# Altium footprint library SparkFun-Connectors.PCBLIB: 309 footprints (part 2 of 20)
Each footprint in its own frame and in the unit in brackets; x right, y up, seen from the top. Pads: shape width x height; smd on the part's side, far side on the other; paste and mask are expansions set on the pad; w line width, h text height; cw(c..) or ccw(c..) is an arc to the next point about the centre after c.
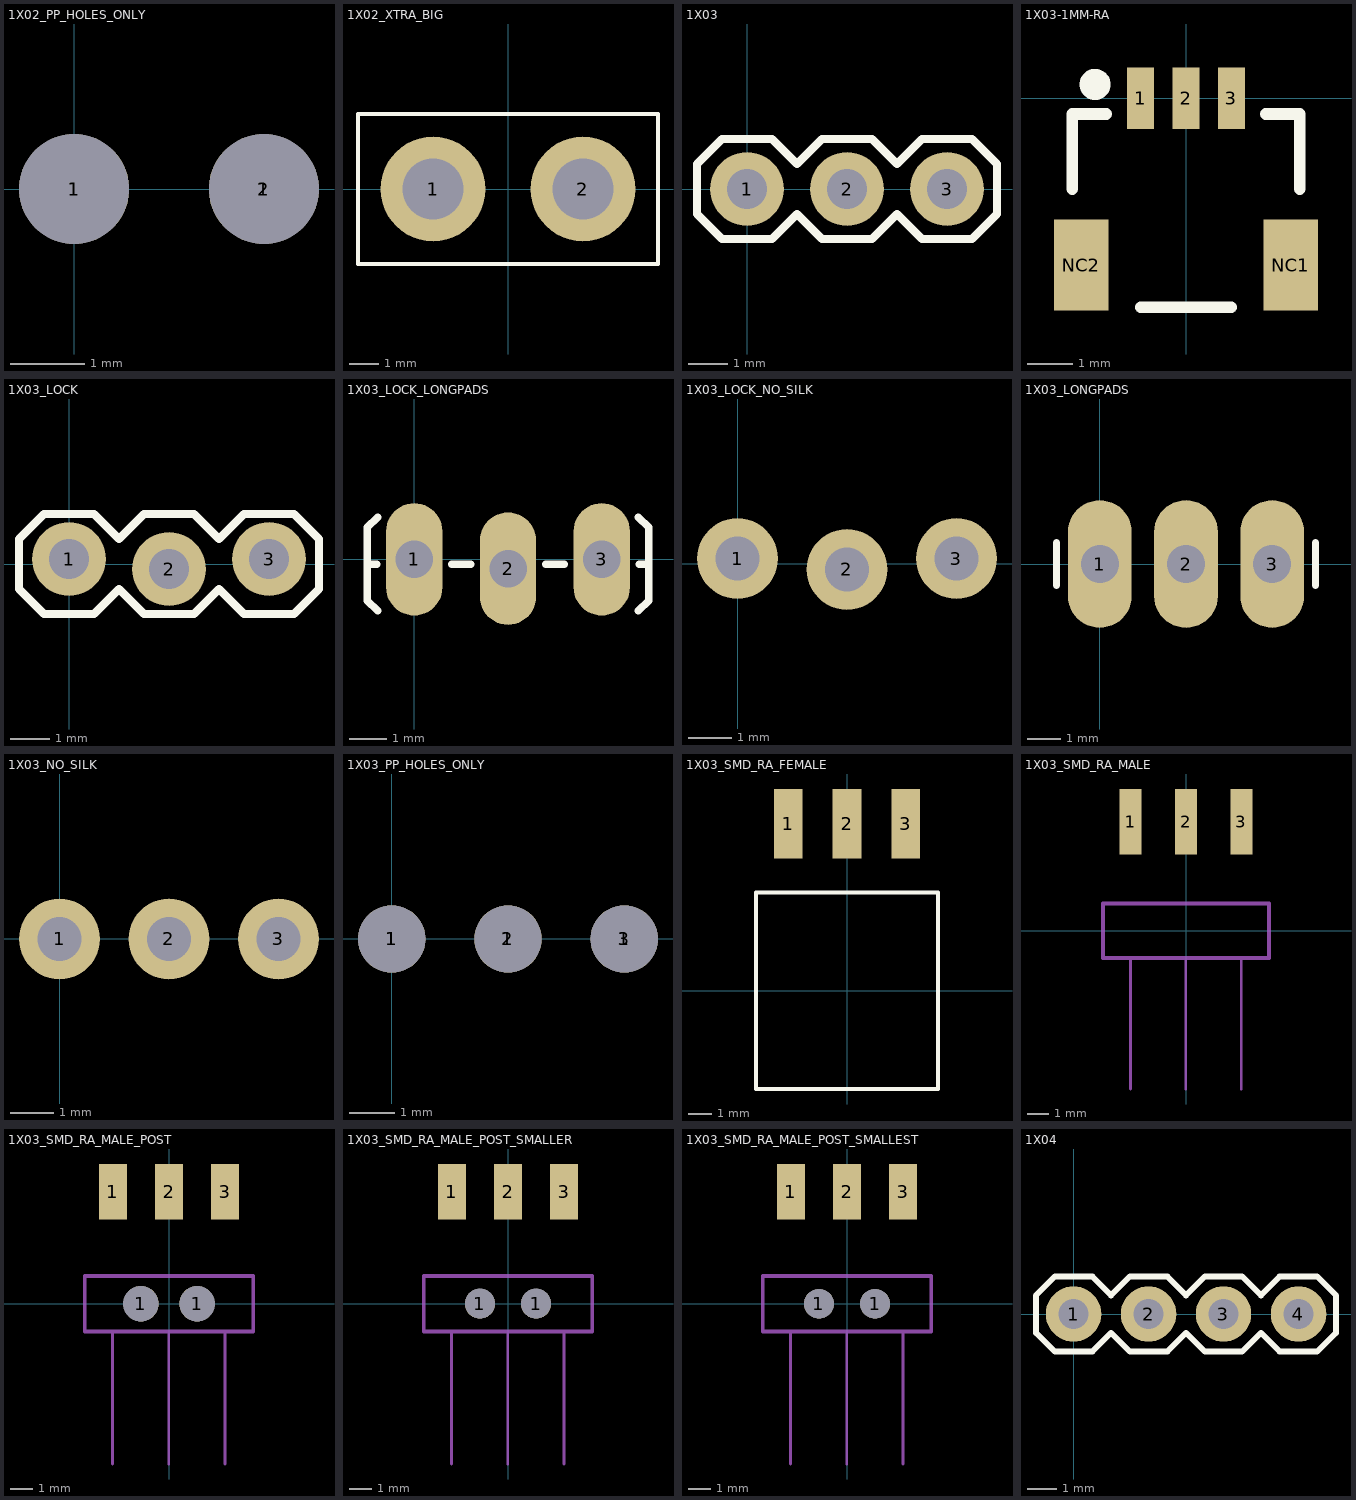
[diagram p1: the footprints below, top view; thin cyan lines are the x and y axes]

## 1X02_PP_HOLES_ONLY [mil]
pads (4):
  round 32 hole 35: 1(0,0) 2(100,0)
  round 58 hole 58: 1(0,0) 1(100,0)
Mechanical 16:
  circle w5: c0,0 r25
  circle w5: c100,0 r25

## 1X02_XTRA_BIG [mil]
pads (2):
  round 140 hole 81: 1(-100,0) 2(100,0)
Top Overlay:
  lines w5: -200,-100 -200,100 200,100 200,-100 -200,-100

## 1X03 [mil]
pads (3):
  round 74 hole 40: 1(0,0) 2(100,0) 3(200,0)
Top Overlay:
  lines w8: -50,-25 -50,25 -25,50 25,50 50,25 75,50 125,50 150,25 175,50 225,50 250,25 250,-25 225,-50 175,-50 150,-25 125,-50 75,-50 50,-25 25,-50 -25,-50 -50,-25
Mechanical 16:
  rectangle: 190,-10 210,10
  rectangle: 90,-10 110,10
  rectangle: -10,-10 10,10

## 1X03-1MM-RA [mm]
pads (5):
  rect 0.6x1.35 smd: 1(-1,0) 2(0,0) 3(1,0)
  rect 1.2x2 smd: NC1(2.3,-3.675) NC2(-2.3,-3.675)
Top Overlay:
  circle w0.4: c-2,0.3 r0.141
  lines w0.254: -2.5,-2 -2.5,-0.35 -1.75,-0.35 ; -1,-4.6 1,-4.6 ; 1.75,-0.35 2.5,-0.35 2.5,-2

## 1X03_LOCK [mil]
pads (3):
  round 74 hole 40: 1(0,5) 2(100,-5) 3(200,5)
Top Overlay:
  lines w8: -50,-25 -50,25 -25,50 25,50 50,25 75,50 125,50 150,25 175,50 225,50 250,25 250,-25 225,-50 175,-50 150,-25 125,-50 75,-50 50,-25 25,-50 -25,-50 -50,-25
Mechanical 16:
  rectangle: 190,-10 210,10
  rectangle: 90,-10 110,10
  rectangle: -10,-10 10,10

## 1X03_LOCK_LONGPADS [mil]
pads (3):
  oval 60x120 hole 40: 1(0,0) 2(100,-10) 3(200,0)
Top Overlay:
  lines w8: -40,-5 -50,-5 ; -39,-55 -50,-44 -50,-5 ; -39,45 -50,34 -50,-5 ; 40,-5 60,-5 ; 140,-5 160,-5 ; 239,-55 250,-44 250,-5 ; 239,45 250,34 250,-5 ; 240,-5 250,-5
Mechanical 16:
  rectangle: -11.5,-16.5 11.5,6.5
  rectangle: 88.5,-16.5 111.5,6.5
  rectangle: 188.5,-16.5 211.5,6.5

## 1X03_LOCK_NO_SILK [mil]
pads (3):
  round 74 hole 40: 1(0,5) 2(100,-5) 3(200,5)
Mechanical 16:
  rectangle: 190,-10 210,10
  rectangle: 90,-10 110,10
  rectangle: -10,-10 10,10

## 1X03_LONGPADS [mil]
pads (3):
  oval 74x148 hole 44: 1(0,0) 2(100,0) 3(200,0)
Top Overlay:
  lines w8: -50,-25 -50,25 ; 250,-25 250,25
Mechanical 16:
  rectangle: 190,-10 210,10
  rectangle: 90,-10 110,10
  rectangle: -10,-10 10,10

## 1X03_NO_SILK [mil]
pads (3):
  round 74 hole 40: 1(0,0) 2(100,0) 3(200,0)
Mechanical 16:
  rectangle: 190,-10 210,10
  rectangle: 90,-10 110,10
  rectangle: -10,-10 10,10

## 1X03_PP_HOLES_ONLY [mil]
pads (6):
  round 32 hole 35.43: 1(0,0) 2(100,0) 3(200,0)
  round 58 hole 58: 1(0,0) 1(100,0) 1(200,0)
Mechanical 16:
  circle w5: c0,0 r25
  circle w5: c100,0 r25
  circle w5: c200,0 r25

## 1X03_SMD_RA_FEMALE [mm]
pads (3):
  rect 1.25x3 smd: 1(-2.54,7.225) 2(0,7.225) 3(2.54,7.225)
Top Overlay:
  lines w0.178: -3.935,-4.25 -3.935,4.25 3.935,4.25 3.935,-4.25 -3.935,-4.25
Mechanical 16:
  rectangle: -0.32,6.8 0.32,7.65
  rectangle: 2.22,6.8 2.86,7.65
  rectangle: -2.86,6.8 -2.22,7.65

## 1X03_SMD_RA_MALE [mm]
pads (3):
  rect 1x3 smd: 1(-2.54,5) 2(0,5) 3(2.54,5)
Mechanical 16:
  rectangle: -0.32,4.15 0.32,5.95
  rectangle: -2.86,4.15 -2.22,5.95
  rectangle: 2.22,4.15 2.86,5.95
  lines w0.127: -2.55,-7.25 -2.55,-1.25 ; -0.01,-7.25 -0.01,-1.25 ; 2.53,-7.25 2.53,-1.25
  lines w0.178: -3.81,-1.25 -3.81,1.25 3.81,1.25 3.81,-1.25 2.53,-1.25 -0.01,-1.25 -2.55,-1.25 -3.81,-1.25

## 1X03_SMD_RA_MALE_POST [mil]
pads (5):
  rect 50x98.43 smd: 1(-100,199.61) 2(0,199.61) 3(100,199.61)
  round 62.99 hole 62.99: 1(-50,0) 1(50,0)
Mechanical 16:
  rectangle: -12.6,163.39 12.6,234.25
  rectangle: -112.6,163.39 -87.4,234.25
  rectangle: 87.4,163.39 112.6,234.25
  lines w5: -100.39,-285.43 -100.39,-49.21 ; -0.39,-285.43 -0.39,-49.21 ; 99.61,-285.43 99.61,-49.21
  lines w7: -150,-49.21 -150,49.21 150,49.21 150,-49.21 99.61,-49.21 -0.39,-49.21 -100.39,-49.21 -150,-49.21

## 1X03_SMD_RA_MALE_POST_SMALLER [mil]
pads (5):
  rect 50x98.43 smd: 1(-100,199.61) 2(0,199.61) 3(100,199.61)
  round 53.5 hole 53.5: 1(-50,0) 1(50,0)
Mechanical 16:
  rectangle: -12.6,163.39 12.6,234.25
  rectangle: -112.6,163.39 -87.4,234.25
  rectangle: 87.4,163.39 112.6,234.25
  lines w5: -100.39,-285.43 -100.39,-49.21 ; -0.39,-285.43 -0.39,-49.21 ; 99.61,-285.43 99.61,-49.21
  lines w7: -150,-49.21 -150,49.21 150,49.21 150,-49.21 99.61,-49.21 -0.39,-49.21 -100.39,-49.21 -150,-49.21

## 1X03_SMD_RA_MALE_POST_SMALLEST [mil]
pads (5):
  rect 50x98.43 smd: 1(-100,199.61) 2(0,199.61) 3(100,199.61)
  round 53 hole 53: 1(-50,0) 1(50,0)
Mechanical 16:
  rectangle: -12.6,163.39 12.6,234.25
  rectangle: -112.6,163.39 -87.4,234.25
  rectangle: 87.4,163.39 112.6,234.25
  lines w5: -100.39,-285.43 -100.39,-49.21 ; -0.39,-285.43 -0.39,-49.21 ; 99.61,-285.43 99.61,-49.21
  lines w7: -150,-49.21 -150,49.21 150,49.21 150,-49.21 99.61,-49.21 -0.39,-49.21 -100.39,-49.21 -150,-49.21

## 1X04 [mil]
pads (4):
  round 74 hole 40: 1(0,0) 2(100,0) 3(200,0) 4(300,0)
Top Overlay:
  lines w8: -50,-25 -50,25 -25,50 25,50 50,25 75,50 125,50 150,25 175,50 225,50 250,25 275,50 325,50 350,25 350,-25 325,-50 275,-50 250,-25 225,-50 175,-50 150,-25 125,-50 75,-50 50,-25 25,-50 -25,-50 -50,-25
Mechanical 16:
  rectangle: 290,-10 310,10
  rectangle: 190,-10 210,10
  rectangle: 90,-10 110,10
  rectangle: -10,-10 10,10